# EAGLE library part ARDUINOPROMINI (library mylib)
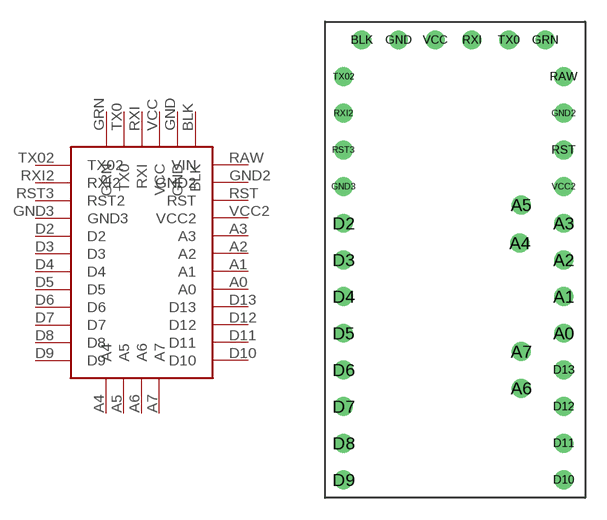
[diagram p1: symbol with the pads of ARDUINOPROMINI; footprint ARDUINOPROMINI]

Designator prefix -

## ARDUINOPROMINI  [ARDUINOPROMINI]
A0  A0
A1  A1
A2  A2
A3  A3
A4  A4
A5  A5
A6  A6
A7  A7
BLK  BLK
D2  D2
D3  D3
D4  D4
D5  D5
D6  D6
D7  D7
D8  D8
D9  D9
D10  D10
D11  D11
D12  D12
D13  D13
GND  GND
GND2  GND2
GND3  GND3
GRN  GRN
RAW  VIN
RST  RST
RST3  RST2
RXI  RXI
RXI2  RXI2
TX0  TX0
TX02  TX02
VCC  VCC
VCC2  VCC2

## Footprint ARDUINOPROMINI (pad centres in mm)
drill 0.8: A0 16.51,-21.59; A1 16.51,-19.05; A2 16.51,-16.51; A3 16.51,-13.97; A4 13.47,-15.34; A5 13.57,-12.7; A6 13.57,-25.4; A7 13.57,-22.86; BLK 2.54,-1.27; D2 1.27,-13.97; D3 1.27,-16.51; D4 1.27,-19.05; D5 1.27,-21.59; D6 1.27,-24.13; D7 1.27,-26.67; D8 1.27,-29.21; D9 1.27,-31.75; D10 16.51,-31.75; D11 16.51,-29.21; D12 16.51,-26.67; D13 16.51,-24.13; GND 5.08,-1.27; GND2 16.51,-6.35; GND3 1.27,-11.43; GRN 15.24,-1.27; RAW 16.51,-3.81; RST 16.51,-8.89; RST3 1.27,-8.89; RXI 10.16,-1.27; RXI2 1.27,-6.35; TX0 12.7,-1.27; TX02 1.27,-3.81; VCC 7.62,-1.27; VCC2 16.51,-11.43